# Altium schematic symbol library OPA4350EA_250.SchLib: 1 symbol
Pins are listed as number, name and electrical type; pins without a type are passive.

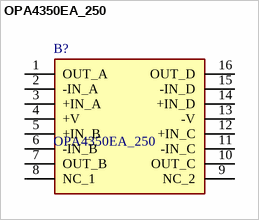
[diagram p0: symbol OPA4350EA_250]

## OPA4350EA_250
designator B?
Texas Instruments OPA4350EA/250, Quad Op Amp, 38MHz CMOS, Rail to Rail, 3 V, 5 V, 16-Pin SSOP; Geometry.Height: 1.75mm; Mouser Part Number: 595-OPA4350EA/250; Mouser Price/Stock: https://www.mouser.co.uk/ProductDetail/Texas-Instruments/OPA4350EA-250?qs=wgAEGBTxy7lb0jb8rTnMIw%3D%3D; Manufacturer_Name: Texas Instruments; Manufacturer_Part_Number: OPA4350EA/250; Datasheet Link: http://www.ti.com/lit/gpn/opa4350
footprint SOP64P600X175-16N
pins: 1 OUT_A, 2 -IN_A, 3 +IN_A, 4 +V, 5 +IN_B, 6 -IN_B, 7 OUT_B, 8 NC_1, 9 NC_2, 10 OUT_C, 11 -IN_C, 12 +IN_C, 13 -V, 14 +IN_D, 15 -IN_D, 16 OUT_D